# Altium footprint library Conn_JST_S2B-PH-K-S_LF_SN_eec_0.PcbLib: 1 footprints
Each footprint in its own frame and in the unit in brackets; x right, y up, seen from the top. Pads: shape width x height; smd on the part's side, far side on the other; paste and mask are expansions set on the pad; w line width, h text height; cw(c..) or ccw(c..) is an arc to the next point about the centre after c.
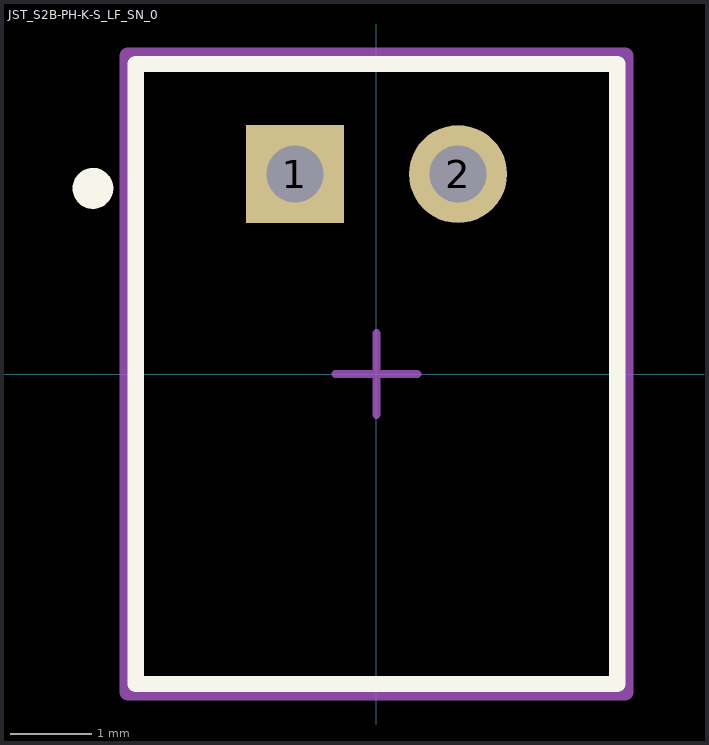
[diagram p0: the footprint, top view; thin cyan lines are the x and y axes]

## JST_S2B-PH-K-S_LF_SN_0 [mm]
pads (2):
  rect 1.2x1.2 hole 0.7 paste-1000 mask+0: 1(-1,2.45)
  round 1.2 hole 0.7 paste-1000 mask+0: 2(1,2.45)
Top Overlay:
  circle w0.25: c-3.475,2.275 r0.125
  lines w0.2: -2.95,-3.8 2.95,-3.8 2.95,3.8 -2.95,3.8 -2.95,-3.8
Mechanical 10:
  lines w0.2: -3.05,-3.9 3.05,-3.9 3.05,3.9 -3.05,3.9 -3.05,-3.9
  text ".Designator" at 0,0 h1
Mechanical 12:
  lines w0.15: -2.95,-3.8 2.95,-3.8 2.95,3.8 -2.95,3.8 -2.95,-3.8
Mechanical 15:
  lines w0.1: -0.5,0 0.5,0 ; 0,-0.5 0,0.5
  lines w0.2: -3.05,-3.9 3.05,-3.9 3.05,3.9 -3.05,3.9 -3.05,-3.9
3D body "Conn_JST_S2B-PH-K-S_LF_SN_eec.STEP": height 0.25, standoff 0, extent -3.05,-3.9 3.05,3.9